# Altium footprint library Fuse SMD.PcbLib: 1 footprints
Each footprint in its own frame and in the unit in brackets; x right, y up, seen from the top. Pads: shape width x height; smd on the part's side, far side on the other; paste and mask are expansions set on the pad; w line width, h text height; cw(c..) or ccw(c..) is an arc to the next point about the centre after c.
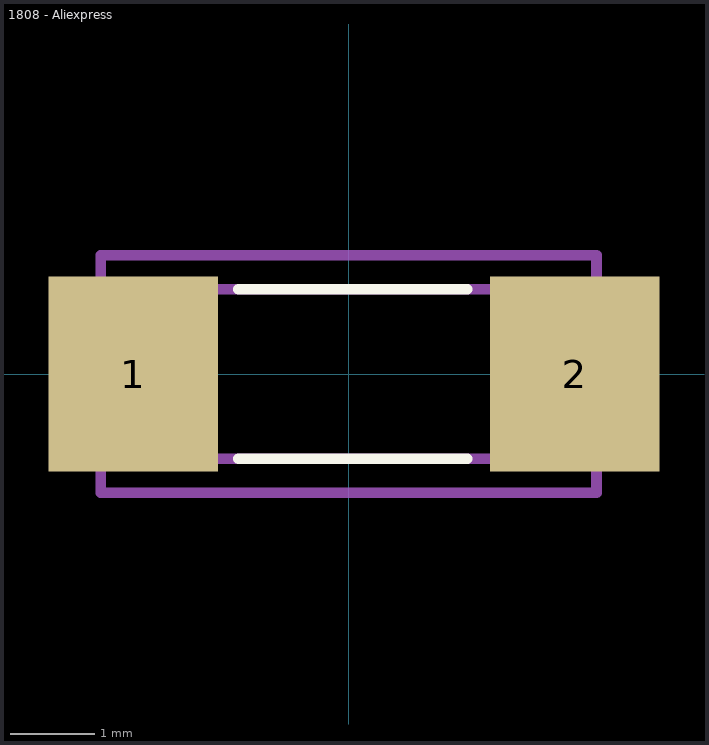
[diagram p0: the footprint, top view; thin cyan lines are the x and y axes]

## 1808 - Aliexpress [mm]
pads (2):
  rect 2x2.3 smd: 1(-2.54,0) 2(2.667,0)
Top Overlay:
  lines w0.127: -1.3,-1 1.4,-1 ; -1.3,1 1.4,1
Mechanical 13:
  lines w0.127: -2.25,-1 -2.25,1 -1.65,1 1.65,1 2.25,1 2.25,-1 1.65,-1 -1.65,-1 -2.25,-1
Mechanical 15:
  lines w0.127: -2.925,-1.4 -2.925,1.4 2.925,1.4 2.925,-1.4 -2.925,-1.4
3D body "step_temp.STEP": height 0.8, standoff -0.8, extent -2.25,-1.015 2.25,1.015